# Altium schematic symbol library AP7380-33W5-7.SchLib: 1 symbol
Pins are listed as number, name and electrical type; pins without a type are passive.

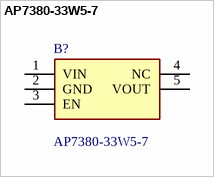
[diagram p0: symbol AP7380-33W5-7]

## AP7380-33W5-7
designator B?
Linear Voltage Regulator IC Positive Fixed 1 Output 150mA SOT-25; Manufacturer_Name: Diodes Incorporated; Geometry.Height: 1.4mm; Mouser Part Number: 621-AP7380-33W5-7; Mouser Price/Stock: https://www.mouser.co.uk/ProductDetail/Diodes-Incorporated/AP7380-33W5-7?qs=MHUP4w%2FlnDzyKn8exxYY8w%3D%3D; Manufacturer_Part_Number: AP7380-33W5-7; Datasheet Link: https://www.diodes.com/assets/Datasheets/AP7380.pdf
footprint SOT95P285X140-5N
pins: 1 VIN, 2 GND, 3 EN, 4 NC, 5 VOUT